# Altium footprint library JST BM03B-SRSS-TB.PCBLIB: 1 footprints
Each footprint in its own frame and in the unit in brackets; x right, y up, seen from the top. Pads: shape width x height; smd on the part's side, far side on the other; paste and mask are expansions set on the pad; w line width, h text height; cw(c..) or ccw(c..) is an arc to the next point about the centre after c.
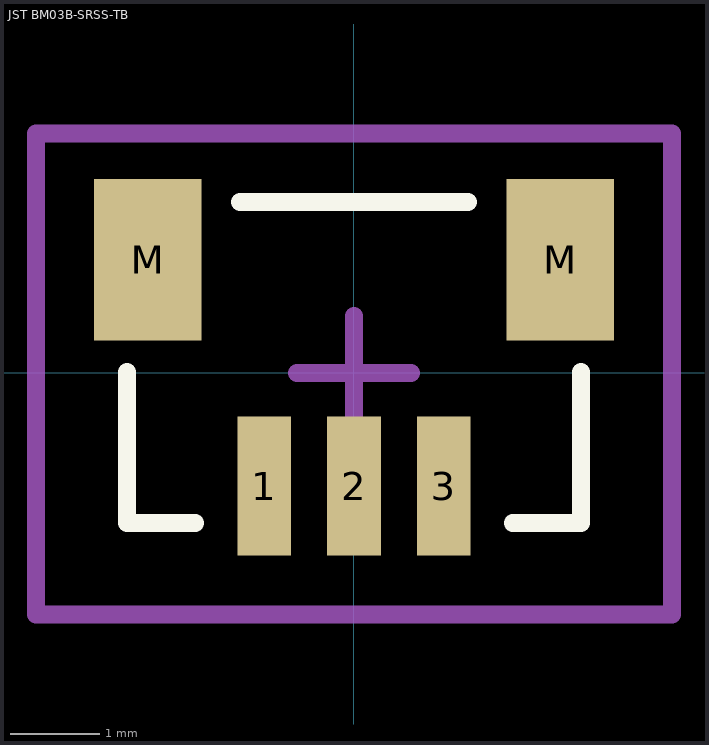
[diagram p0: the footprint, top view; thin cyan lines are the x and y axes]

## JST BM03B-SRSS-TB [mm] "1.0mm pitch/Disconnectable Crimp style connector"
height 2.95
pads (5):
  rect 0.6x1.55 smd: 1(-1,-1.262) 2(0,-1.262) 3(1,-1.262)
  rect 1.2x1.8 smd: M(-2.3,1.262) M(2.3,1.262)
Top Overlay:
  lines w0.2: -2.532,0.008 -2.532,-1.676 -1.77,-1.676 ; -1.27,1.905 1.27,1.905 ; 1.77,-1.676 2.532,-1.676 2.532,0.008
Mechanical 15:
  lines w0.2: -0.635,0 0.635,0 ; 0,-0.635 0,0.635 ; -3.548,-2.692 3.548,-2.692 3.548,2.667 -3.548,2.667 -3.548,-2.692
3D body "JST BM03B-SRSS-TB.STEP": height 4.32, standoff 0, extent -2.5,-1.688 2.5,1.912